# EAGLE library part LM22676TJ-ADJ/NOPB (library TI-Eagle_library)
42V, 3A SIMPLE SWITCHER® Step-Down Voltage Regulator with Features,7-TO-263
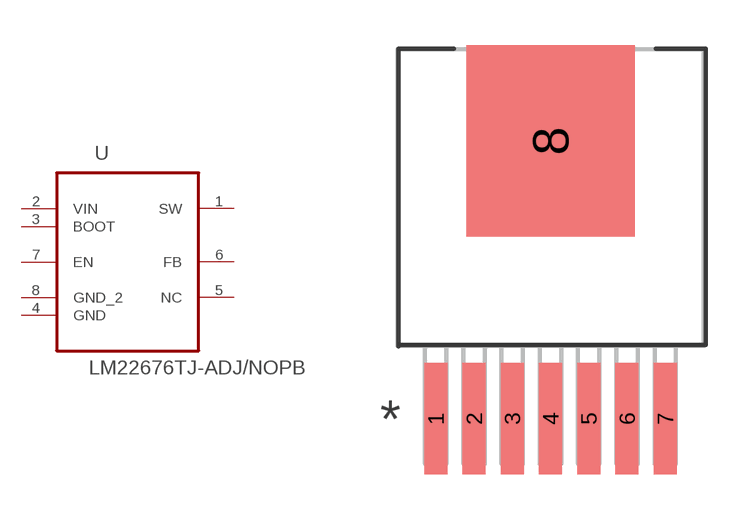
[diagram p9: symbol with the pads of TI_TO-263_7; footprint TI_TO-263_7]

Designator prefix U

## LM22676TJ-ADJ/NOPB (MPN: LM22676TJ-ADJ/NOPB; OC_FARNELL: 2084311; OC_NEWARK: 75T9682; PACKAGE: 7-TO-263; SUPPLIER: TEXAS INSTRUMENTS)  [TI_TO-263_7]
1  SW  out
2  VIN  pwr
3  BOOT  in
4  GND  pas
5  NC  nc
6  FB  in
7  EN  in
8  GND_2  pas

## Footprint TI_TO-263_7 (pad centres in mm)
smd 0.762 x 3.708: 1 -3.81,-7.341; 2 -2.54,-7.341; 3 -1.27,-7.341; 4 0,-7.341; 5 1.27,-7.341; 6 2.54,-7.341; 7 3.81,-7.341
smd 5.59 x 6.35: 8 0,1.884